# Altium schematic symbol library UCC27282DR.SchLib: 1 symbol
Pins are listed as number, name and electrical type; pins without a type are passive.

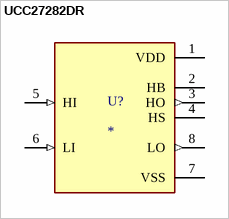
[diagram p0: symbol UCC27282DR]

## UCC27282DR
designator U?
3-A, 120-V half-bridge gate driver with 5-V UVLO, interlock and enable; MF: Texas Instruments; MP: UCC27282DR; SnapEDA_Link: https://www.snapeda.com/parts/UCC27282DR/Texas+Instruments/view-part/?ref=snap; Package: None; Value: *; Check_prices: https://www.snapeda.com/parts/UCC27282DR/Texas+Instruments/view-part/?ref=eda
footprint SOIC127P599X175-8N
pins: 1 VDD (power), 2 HB, 3 HO (out), 4 HS, 5 HI (in), 6 LI (in), 7 VSS (power), 8 LO (out)